# Altium footprint library PCBTrans.PcbLib: 1 footprints
Each footprint in its own frame and in the unit in brackets; x right, y up, seen from the top. Pads: shape width x height; smd on the part's side, far side on the other; paste and mask are expansions set on the pad; w line width, h text height; cw(c..) or ccw(c..) is an arc to the next point about the centre after c.
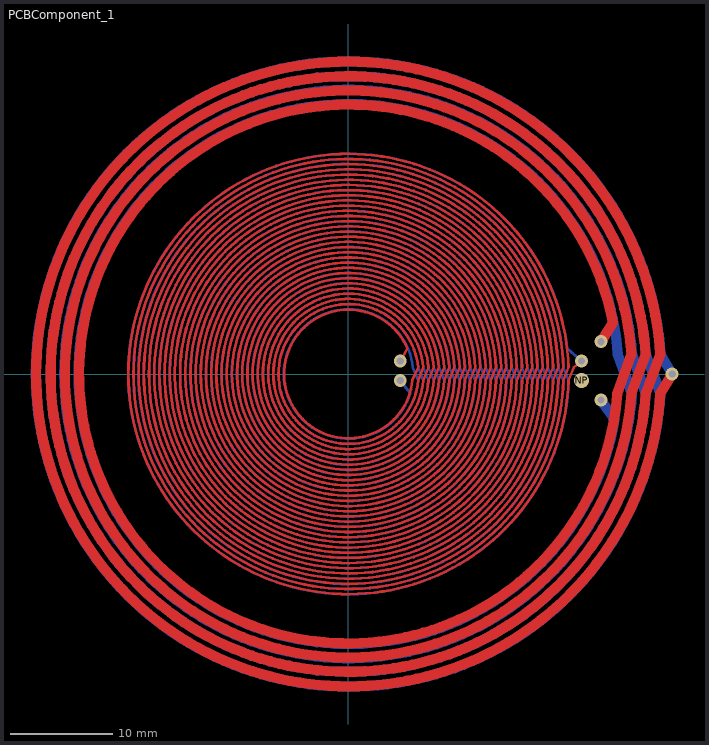
[diagram p0: the footprint, top view; thin cyan lines are the x and y axes]

## PCBComponent_1 [mm]
pads (1):
  rrect100% 1.5x1.5 smd: NP(22.86,-0.635)
via 24.765,3.175 diameter 1.27 hole 0.711
via 24.765,-2.54 diameter 1.27 hole 0.711
via 31.75,0 diameter 1.27 hole 0.711
via 5.08,-0.635 diameter 1.27 hole 0.711
via 5.08,1.27 diameter 1.27 hole 0.711
via 22.86,1.27 diameter 1.27 hole 0.711
Component Side:
  lines w0.254: 5.08,1.27 5.782,2.514 ccw(c0,0) 6.274,-0.627 6.833,0.633 ccw(c0,0) 6.835,-0.621 7.34,0.633 ccw(c0,0) 7.34,-0.633 7.849,0.633 ccw(c0,0) 7.849,-0.633 8.373,0.634 ccw(c0,0) 8.373,-0.634 8.867,0.633 ccw(c0,0) 8.867,-0.633 9.377,0.634 ccw(c0,0) 9.377,-0.634 9.885,0.642 ccw(c0,0) 9.886,-0.634 10.395,0.634 ccw(c0,0) 10.395,-0.634 10.904,0.634 ccw(c0,0) 10.904,-0.634 11.412,0.634 ccw(c0,0) 11.412,-0.634 11.921,0.634 ccw(c0,0) 11.921,-0.634 12.43,0.634 ccw(c0,0) 12.43,-0.634 12.941,0.634 ccw(c0,0) 12.941,-0.634 13.447,0.634 ccw(c0,0) 13.447,-0.634 13.956,0.634 ccw(c0,0) 13.956,-0.634 14.466,0.634 ccw(c0,0) 14.466,-0.634 14.975,0.635 ccw(c0,0) 14.974,-0.64 15.486,0.635 ccw(c0,0) 15.486,-0.635 15.991,0.635 ccw(c0,0) 15.991,-0.635 16.51,0.635 ccw(c0,0) 16.51,-0.635 17.018,0.635 ccw(c0,0) 17.018,-0.635 17.519,0.635 ccw(c0,0) 17.519,-0.635 18.023,0.635 ccw(c0,0) 18.023,-0.635 18.532,0.635 ccw(c0,0) 18.532,-0.635 19.041,0.635 ccw(c0,0) 19.041,-0.639 19.558,0.635 ccw(c0,0) 19.558,-0.635 20.06,0.635 ccw(c0,0) 20.059,-0.639 20.565,0.635 ccw(c0,0) 20.565,-0.635 21.079,0.635 ccw(c0,0) 21.079,-0.635 21.581,0.635 ccw(c0,0) 21.581,-0.627 22.098,0.635 22.86,1.27
  lines w1: 24.765,3.175 25.939,5.037 ccw(c0,0) 26.355,-1.91 27.749,1.909 ccw(c0,0) 27.749,-1.901 29.148,1.901 ccw(c0,0) 29.148,-1.901 30.579,1.911 ccw(c0,0) 30.579,-1.911 31.75,0
Bottom Layer:
  lines w0.254: 5.08,-0.635 6.062,-1.894 cw(c0,0) 6.318,0.645 6.833,-0.633 cw(c0,0) 6.832,0.645 7.343,-0.633 cw(c0,0) 7.343,0.633 7.849,-0.633 cw(c0,0) 7.849,0.633 8.359,-0.633 cw(c0,0) 8.359,0.633 8.89,-0.635 cw(c0,0) 8.89,0.635 9.398,-0.635 cw(c0,0) 9.398,0.635 9.906,-0.635 cw(c0,0) 9.906,0.635 10.414,-0.635 cw(c0,0) 10.414,0.635 10.922,-0.635 cw(c0,0) 10.922,0.635 11.43,-0.635 cw(c0,0) 11.43,0.635 11.938,-0.635 cw(c0,0) 11.938,0.635 12.446,-0.635 cw(c0,0) 12.446,0.635 12.954,-0.635 cw(c0,0) 12.954,0.635 13.462,-0.635 cw(c0,0) 13.462,0.635 13.97,-0.635 cw(c0,0) 13.97,0.635 14.478,-0.635 cw(c0,0) 14.478,0.635 14.992,-0.635 cw(c0,0) 14.992,0.635 15.494,-0.635 cw(c0,0) 15.494,0.635 16.002,-0.635 cw(c0,0) 16.002,0.635 16.51,-0.635 cw(c0,0) 16.51,0.635 17.018,-0.635 cw(c0,0) 17.018,0.635 17.526,-0.635 cw(c0,0) 17.526,0.635 18.034,-0.635 cw(c0,0) 18.034,0.635 18.538,-0.635 cw(c0,0) 18.538,0.635 19.04,-0.635 cw(c0,0) 19.04,0.635 19.558,-0.635 cw(c0,0) 19.558,0.635 20.066,-0.635 cw(c0,0) 20.066,0.635 20.596,-0.636 cw(c0,0) 20.596,0.636 21.086,-0.635 cw(c0,0) 21.086,0.635 21.59,-0.635 cw(c0,0) 21.451,2.524 22.86,1.27
  lines w1: 24.765,-2.54 26.107,-4.457 cw(c0,0) 26.416,1.905 27.813,-1.905 cw(c0,0) 27.813,1.905 29.15,-1.909 cw(c0,0) 29.15,1.909 30.606,-1.921 cw(c0,0) 30.607,1.905 31.75,0